# Altium schematic symbol library AMIS30624_NQFP-32.SchLib: 1 symbol
Pins are listed as number, name and electrical type; pins without a type are passive.

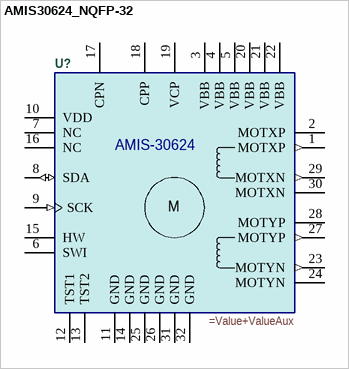
[diagram p0: symbol AMIS30624_NQFP-32]

## AMIS30624_NQFP-32
designator U?
=Description
pins: 1 MOTXP (out), 2 MOTXP, 3 VBB (power), 4 VBB (power), 5 VBB (power), 6 SWI (power), 7 NC, 8 SDA (io), 9 SCK (in), 10 VDD (power), 11 GND (power), 12 TST1, 13 TST2, 14 GND (power), 15 HW (power), 16 NC, 17 CPN, 18 CPP, 19 VCP (power), 20 VBB (power), 21 VBB (power), 22 VBB (power), 23 MOTYN (out), 24 MOTYN, 25 GND (power), 26 GND (power), 27 MOTYP (out), 28 MOTYP, 29 MOTXN (out), 30 MOTXN, 31 GND (power), 32 GND (power)
text: AMIS-30624; M